# EAGLE library part DM1B-DSF-PEJ(82) (library hirose)
SD Card and MMC Reader (Reverse Type) Source: http://www.hirose.co.jp/catalogj_hp/j60900048.pdf
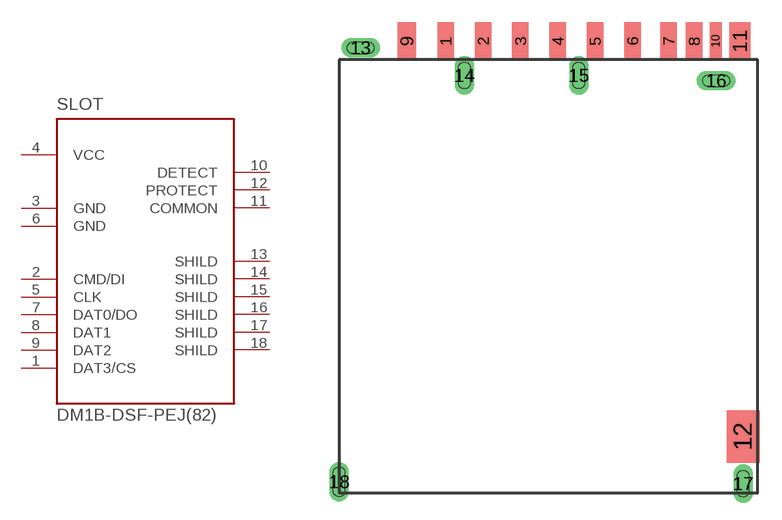
[diagram p0: symbol with the pads of DM1B-DSF-PEJ(82); footprint DM1B-DSF-PEJ(82)]

Designator prefix SLOT

## DM1B-DSF-PEJ(82)  [DM1B-DSF-PEJ(82)]
1  DAT3/CS
2  CMD/DI  in
3  GND  pwr
4  VCC  pwr
5  CLK  in
6  GND  pwr
7  DAT0/DO
8  DAT1
9  DAT2
10  DETECT  pas
11  COMMON  pas
12  PROTECT  pas
13  SHILD  pas
14  SHILD  pas
15  SHILD  pas
16  SHILD  pas
17  SHILD  pas
18  SHILD  pas

## Footprint DM1B-DSF-PEJ(82) (pad centres in mm)
SD Card and MMC Reader (Reverse Type) Source: http://www.hirose.co.jp/catalogj_hp/j60900048.pdf
smd 1.1 x 2.5: 1 -6.875,30.25; 2 -4.375,30.25; 3 -1.875,30.25; 4 0.625,30.25; 5 3.125,30.25; 6 5.625,30.25; 7 8.05,30.25; 8 9.75,30.25
smd 1.25 x 2.5: 9 -9.47,30.25
smd 0.8 x 2.5: 10 11.2,30.25
smd 1.4 x 2.5: 11 12.8,30.25
smd 2.2 x 3.5: 12 13.03,3.77
drill 0.8 pad 1 long: 13 -12.57,29.8; 14 -5.62,27.95; 15 2.03,27.95; 16 11.23,27.6; 17 13.03,0.625
drill 0.8 pad 1.2 long: 18 -14,0.75